# Altium footprint library 2020-07-15_11-51-00.PcbLib: 3 footprints
Each footprint in its own frame and in the unit in brackets; x right, y up, seen from the top. Pads: shape width x height; smd on the part's side, far side on the other; paste and mask are expansions set on the pad; w line width, h text height; cw(c..) or ccw(c..) is an arc to the next point about the centre after c.
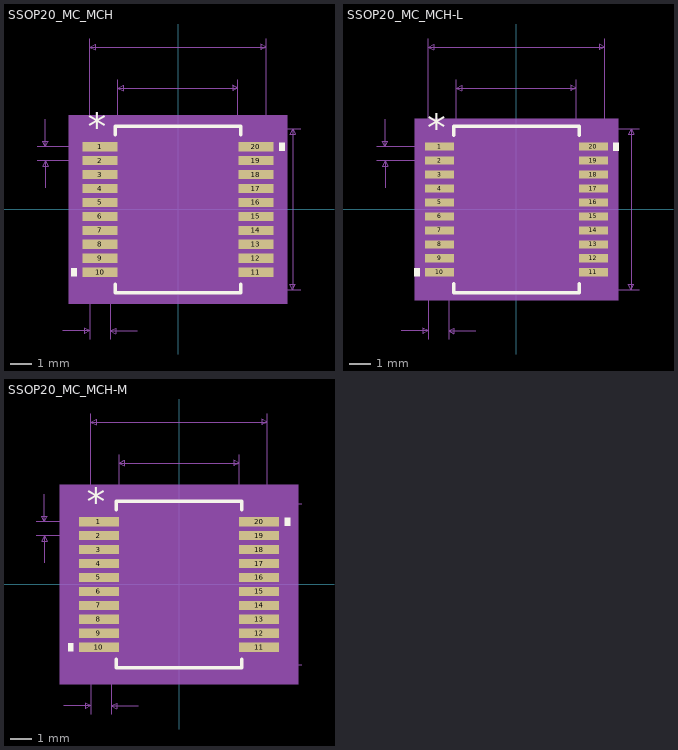
[diagram p0: the footprints below, top view; thin cyan lines are the x and y axes]

## SSOP20_MC_MCH [mil]
pads (20):
  rect 65x17 smd paste+0 mask+0: 1(-143,115.16) 2(-143,89.57) 3(-143,63.98) 4(-143,38.39) 5(-143,12.8) 6(-143,-12.8) 7(-143,-38.39) 8(-143,-63.98) 9(-143,-89.57) 10(-143,-115.16) 11(143,-115.16) 12(143,-89.57) 13(143,-63.98) 14(143,-38.39) 15(143,-12.8) 16(143,12.8) 17(143,38.39) 18(143,63.98) 19(143,89.57) 20(143,115.16)
Top Overlay:
  region: -185.5,-107.66 -195.5,-107.66 -195.5,-122.66 -185.5,-122.66
  region: 185.5,122.66 195.5,122.66 195.5,107.66 185.5,107.66
  lines w6: -115,-136.76 -115,-152.5 115,-152.5 115,-136.76 ; -115,136.76 -115,152.5 115,152.5 115,136.76
  text "*" at -165.5,127.16 h50
Mechanical 5:
  region: 200.5,-172.5 -200.5,-172.5 -200.5,172.5 200.5,172.5
Mechanical 7:
  lines w1: -258,89.57 -143,89.57 ; -258,115.16 -143,115.16 ; -243,39.57 -243,89.57 ; -243,165.16 -243,115.16 ; -211.5,-222.5 -161.5,-222.5 ; -161.5,-237.5 -161.5,0 -161.5,312.5 ; -124.5,-237.5 -124.5,0 ; -110,0 -110,237.5 ; -74.5,-222.5 -124.5,-222.5 ; 0,-147.5 225,-147.5 ; 0,147.5 225,147.5 ; 110,0 110,237.5 ; 161.5,0 161.5,312.5 ; -243,89.57 -248,79.57 -238,79.57 -243,89.57 ; -243,115.16 -248,125.16 -238,125.16 -243,115.16 ; -161.5,-222.5 -171.5,-217.5 -171.5,-227.5 -161.5,-222.5 ; -161.5,297.5 161.5,297.5 ; -161.5,297.5 -151.5,302.5 -151.5,292.5 -161.5,297.5 ; -124.5,-222.5 -114.5,-217.5 -114.5,-227.5 -124.5,-222.5 ; -110,222.5 110,222.5 ; -110,222.5 -100,227.5 -100,217.5 -110,222.5 ; 110,222.5 100,227.5 100,217.5 110,222.5 ; 161.5,297.5 151.5,302.5 151.5,292.5 161.5,297.5 ; 210,-147.5 210,147.5 ; 210,-147.5 205,-137.5 215,-137.5 210,-147.5 ; 210,147.5 205,137.5 215,137.5 210,147.5
  text "Default Padstyle: RX65Y17D0T" at -350,-347.5 h50
  text "Pin One Padstyle: RX65Y17D0T" at -350,-407.5 h50
  text "Alt 1 Padstyle: OX60Y90D30P" at -337.5,-587.5 h50
  text "Alt 2 Padstyle: OX90Y60D30P" at -337.5,-647.5 h50
  text "0.22in/5.588mm" at -87.5,242.5 h25
  text "0.323in/8.204mm" at -93.75,317.5 h25
  text "0.295in/7.493mm" at 230,-12.5 h25
  text "0.026in/0.65mm" at -438,89.86 h25
  text "0.037in/0.94mm" at -230.5,-267.5 h25
Mechanical 13:
  lines w0: -12,147.5 ccw(c0,147.5) 12,147.5
  lines w1: -161.5,-122.66 -161.5,-107.66 -110,-107.66 -110,-122.66 -161.5,-122.66 ; -161.5,-97.07 -161.5,-82.07 -110,-82.07 -110,-97.07 -161.5,-97.07 ; -161.5,-71.48 -161.5,-56.48 -110,-56.48 -110,-71.48 -161.5,-71.48 ; -161.5,-45.89 -161.5,-30.89 -110,-30.89 -110,-45.89 -161.5,-45.89 ; -161.5,-20.3 -161.5,-5.3 -110,-5.3 -110,-20.3 -161.5,-20.3 ; -161.5,5.3 -161.5,20.3 -110,20.3 -110,5.3 -161.5,5.3 ; -161.5,30.89 -161.5,45.89 -110,45.89 -110,30.89 -161.5,30.89 ; -161.5,56.48 -161.5,71.48 -110,71.48 -110,56.48 -161.5,56.48 ; -161.5,82.07 -161.5,97.07 -110,97.07 -110,82.07 -161.5,82.07 ; -161.5,107.66 -161.5,122.66 -110,122.66 -110,107.66 -161.5,107.66 ; -110,-147.5 110,-147.5 110,147.5 -110,147.5 -110,-147.5 ; 110,-122.66 110,-107.66 161.5,-107.66 161.5,-122.66 110,-122.66 ; 110,-97.07 110,-82.07 161.5,-82.07 161.5,-97.07 110,-97.07 ; 110,-71.48 110,-56.48 161.5,-56.48 161.5,-71.48 110,-71.48 ; 110,-45.89 110,-30.89 161.5,-30.89 161.5,-45.89 110,-45.89 ; 110,-20.3 110,-5.3 161.5,-5.3 161.5,-20.3 110,-20.3 ; 110,5.3 110,20.3 161.5,20.3 161.5,5.3 110,5.3 ; 110,30.89 110,45.89 161.5,45.89 161.5,30.89 110,30.89 ; 110,56.48 110,71.48 161.5,71.48 161.5,56.48 110,56.48 ; 110,82.07 110,97.07 161.5,97.07 161.5,82.07 110,82.07 ; 110,107.66 110,122.66 161.5,122.66 161.5,107.66 110,107.66
  text "*" at -107.5,94.5 h50
Mechanical 15:
  region: -120,-133.66 -185.5,-133.66 -185.5,133.66 -120,133.66 -120,157.5 120,157.5 120,133.66 185.5,133.66 185.5,-133.66 120,-133.66 120,-157.5 -120,-157.5
  lines w6: -185.5,-133.66 -185.5,133.66 -120,133.66 -120,157.5 120,157.5 120,133.66 185.5,133.66 185.5,-133.66 120,-133.66 120,-157.5 -120,-157.5 -120,-133.66 -185.5,-133.66
3D body: height 10, standoff 0, extent 0,0 10,10

## SSOP20_MC_MCH-L [mil]
pads (20):
  rect 53x15 smd paste+0 mask+0: 1(-141,115.16) 2(-141,89.57) 3(-141,63.98) 4(-141,38.39) 5(-141,12.8) 6(-141,-12.8) 7(-141,-38.39) 8(-141,-63.98) 9(-141,-89.57) 10(-141,-115.16) 11(141,-115.16) 12(141,-89.57) 13(141,-63.98) 14(141,-38.39) 15(141,-12.8) 16(141,12.8) 17(141,38.39) 18(141,63.98) 19(141,89.57) 20(141,115.16)
Top Overlay:
  region: -177.5,-107.66 -187.5,-107.66 -187.5,-122.66 -177.5,-122.66
  region: 177.5,122.66 187.5,122.66 187.5,107.66 177.5,107.66
  lines w6: -115,-135.76 -115,-152.5 115,-152.5 115,-135.76 ; -115,135.76 -115,152.5 115,152.5 115,135.76
  text "*" at -163.5,125.16 h50
Mechanical 5:
  region: 186.5,-166.5 -186.5,-166.5 -186.5,166.5 186.5,166.5
Mechanical 7:
  lines w1: -256,89.57 -141,89.57 ; -256,115.16 -141,115.16 ; -241,39.57 -241,89.57 ; -241,165.16 -241,115.16 ; -211.5,-222.5 -161.5,-222.5 ; -161.5,-237.5 -161.5,0 -161.5,312.5 ; -124.5,-237.5 -124.5,0 ; -110,0 -110,237.5 ; -74.5,-222.5 -124.5,-222.5 ; 0,-147.5 225,-147.5 ; 0,147.5 225,147.5 ; 110,0 110,237.5 ; 161.5,0 161.5,312.5 ; -241,89.57 -246,79.57 -236,79.57 -241,89.57 ; -241,115.16 -246,125.16 -236,125.16 -241,115.16 ; -161.5,-222.5 -171.5,-217.5 -171.5,-227.5 -161.5,-222.5 ; -161.5,297.5 161.5,297.5 ; -161.5,297.5 -151.5,302.5 -151.5,292.5 -161.5,297.5 ; -124.5,-222.5 -114.5,-217.5 -114.5,-227.5 -124.5,-222.5 ; -110,222.5 110,222.5 ; -110,222.5 -100,227.5 -100,217.5 -110,222.5 ; 110,222.5 100,227.5 100,217.5 110,222.5 ; 161.5,297.5 151.5,302.5 151.5,292.5 161.5,297.5 ; 210,-147.5 210,147.5 ; 210,-147.5 205,-137.5 215,-137.5 210,-147.5 ; 210,147.5 205,137.5 215,137.5 210,147.5
  text "Default Padstyle: RX53Y15D0T" at -350,-347.5 h50
  text "Pin One Padstyle: RX53Y15D0T" at -350,-407.5 h50
  text "Alt 1 Padstyle: OX60Y90D30P" at -337.5,-587.5 h50
  text "Alt 2 Padstyle: OX90Y60D30P" at -337.5,-647.5 h50
  text "0.22in/5.588mm" at -87.5,242.5 h25
  text "0.323in/8.204mm" at -93.75,317.5 h25
  text "0.295in/7.493mm" at 230,-12.5 h25
  text "0.026in/0.65mm" at -436,89.86 h25
  text "0.037in/0.94mm" at -230.5,-267.5 h25
Mechanical 13:
  lines w0: -12,147.5 ccw(c0,147.5) 12,147.5
  lines w1: -161.5,-122.66 -161.5,-107.66 -110,-107.66 -110,-122.66 -161.5,-122.66 ; -161.5,-97.07 -161.5,-82.07 -110,-82.07 -110,-97.07 -161.5,-97.07 ; -161.5,-71.48 -161.5,-56.48 -110,-56.48 -110,-71.48 -161.5,-71.48 ; -161.5,-45.89 -161.5,-30.89 -110,-30.89 -110,-45.89 -161.5,-45.89 ; -161.5,-20.3 -161.5,-5.3 -110,-5.3 -110,-20.3 -161.5,-20.3 ; -161.5,5.3 -161.5,20.3 -110,20.3 -110,5.3 -161.5,5.3 ; -161.5,30.89 -161.5,45.89 -110,45.89 -110,30.89 -161.5,30.89 ; -161.5,56.48 -161.5,71.48 -110,71.48 -110,56.48 -161.5,56.48 ; -161.5,82.07 -161.5,97.07 -110,97.07 -110,82.07 -161.5,82.07 ; -161.5,107.66 -161.5,122.66 -110,122.66 -110,107.66 -161.5,107.66 ; -110,-147.5 110,-147.5 110,147.5 -110,147.5 -110,-147.5 ; 110,-122.66 110,-107.66 161.5,-107.66 161.5,-122.66 110,-122.66 ; 110,-97.07 110,-82.07 161.5,-82.07 161.5,-97.07 110,-97.07 ; 110,-71.48 110,-56.48 161.5,-56.48 161.5,-71.48 110,-71.48 ; 110,-45.89 110,-30.89 161.5,-30.89 161.5,-45.89 110,-45.89 ; 110,-20.3 110,-5.3 161.5,-5.3 161.5,-20.3 110,-20.3 ; 110,5.3 110,20.3 161.5,20.3 161.5,5.3 110,5.3 ; 110,30.89 110,45.89 161.5,45.89 161.5,30.89 110,30.89 ; 110,56.48 110,71.48 161.5,71.48 161.5,56.48 110,56.48 ; 110,82.07 110,97.07 161.5,97.07 161.5,82.07 110,82.07 ; 110,107.66 110,122.66 161.5,122.66 161.5,107.66 110,107.66
  text "*" at -107.5,94.5 h50
Mechanical 15:
  region: -114,-126.66 -171.5,-126.66 -171.5,126.66 -114,126.66 -114,151.5 114,151.5 114,126.66 171.5,126.66 171.5,-126.66 114,-126.66 114,-151.5 -114,-151.5
  lines w6: -171.5,-126.66 -171.5,126.66 -114,126.66 -114,151.5 114,151.5 114,126.66 171.5,126.66 171.5,-126.66 114,-126.66 114,-151.5 -114,-151.5 -114,-126.66 -171.5,-126.66
3D body: height 10, standoff 0, extent 0,0 10,10

## SSOP20_MC_MCH-M [mil]
pads (20):
  rect 73.5x17 smd paste+0 mask+0: 1(-146.75,115.16) 2(-146.75,89.57) 3(-146.75,63.98) 4(-146.75,38.39) 5(-146.75,12.8) 6(-146.75,-12.8) 7(-146.75,-38.39) 8(-146.75,-63.98) 9(-146.75,-89.57) 10(-146.75,-115.16) 11(146.75,-115.16) 12(146.75,-89.57) 13(146.75,-63.98) 14(146.75,-38.39) 15(146.75,-12.8) 16(146.75,12.8) 17(146.75,38.39) 18(146.75,63.98) 19(146.75,89.57) 20(146.75,115.16)
Top Overlay:
  region: -193.5,-107.66 -203.5,-107.66 -203.5,-122.66 -193.5,-122.66
  region: 193.5,122.66 203.5,122.66 203.5,107.66 193.5,107.66
  lines w6: -115,-136.76 -115,-152.5 115,-152.5 115,-136.76 ; -115,136.76 -115,152.5 115,152.5 115,136.76
  text "*" at -169.25,127.16 h50
Mechanical 5:
  region: 218.5,-182.5 -218.5,-182.5 -218.5,182.5 218.5,182.5
Mechanical 7:
  lines w1: -261.75,89.57 -146.75,89.57 ; -261.75,115.16 -146.75,115.16 ; -246.75,39.57 -246.75,89.57 ; -246.75,165.16 -246.75,115.16 ; -211.5,-222.5 -161.5,-222.5 ; -161.5,-237.5 -161.5,0 -161.5,312.5 ; -124.5,-237.5 -124.5,0 ; -110,0 -110,237.5 ; -74.5,-222.5 -124.5,-222.5 ; 0,-147.5 225,-147.5 ; 0,147.5 225,147.5 ; 110,0 110,237.5 ; 161.5,0 161.5,312.5 ; -246.75,89.57 -251.75,79.57 -241.75,79.57 -246.75,89.57 ; -246.75,115.16 -251.75,125.16 -241.75,125.16 -246.75,115.16 ; -161.5,-222.5 -171.5,-217.5 -171.5,-227.5 -161.5,-222.5 ; -161.5,297.5 161.5,297.5 ; -161.5,297.5 -151.5,302.5 -151.5,292.5 -161.5,297.5 ; -124.5,-222.5 -114.5,-217.5 -114.5,-227.5 -124.5,-222.5 ; -110,222.5 110,222.5 ; -110,222.5 -100,227.5 -100,217.5 -110,222.5 ; 110,222.5 100,227.5 100,217.5 110,222.5 ; 161.5,297.5 151.5,302.5 151.5,292.5 161.5,297.5 ; 210,-147.5 210,147.5 ; 210,-147.5 205,-137.5 215,-137.5 210,-147.5 ; 210,147.5 205,137.5 215,137.5 210,147.5
  text "Default Padstyle: RX73p5Y17D0T" at -375,-347.5 h50
  text "Pin One Padstyle: RX73p5Y17D0T" at -375,-407.5 h50
  text "Alt 1 Padstyle: OX60Y90D30P" at -337.5,-587.5 h50
  text "Alt 2 Padstyle: OX90Y60D30P" at -337.5,-647.5 h50
  text "0.22in/5.588mm" at -87.5,242.5 h25
  text "0.323in/8.204mm" at -93.75,317.5 h25
  text "0.295in/7.493mm" at 230,-12.5 h25
  text "0.026in/0.65mm" at -441.75,89.86 h25
  text "0.037in/0.94mm" at -230.5,-267.5 h25
Mechanical 13:
  lines w0: -12,147.5 ccw(c0,147.5) 12,147.5
  lines w1: -161.5,-122.66 -161.5,-107.66 -110,-107.66 -110,-122.66 -161.5,-122.66 ; -161.5,-97.07 -161.5,-82.07 -110,-82.07 -110,-97.07 -161.5,-97.07 ; -161.5,-71.48 -161.5,-56.48 -110,-56.48 -110,-71.48 -161.5,-71.48 ; -161.5,-45.89 -161.5,-30.89 -110,-30.89 -110,-45.89 -161.5,-45.89 ; -161.5,-20.3 -161.5,-5.3 -110,-5.3 -110,-20.3 -161.5,-20.3 ; -161.5,5.3 -161.5,20.3 -110,20.3 -110,5.3 -161.5,5.3 ; -161.5,30.89 -161.5,45.89 -110,45.89 -110,30.89 -161.5,30.89 ; -161.5,56.48 -161.5,71.48 -110,71.48 -110,56.48 -161.5,56.48 ; -161.5,82.07 -161.5,97.07 -110,97.07 -110,82.07 -161.5,82.07 ; -161.5,107.66 -161.5,122.66 -110,122.66 -110,107.66 -161.5,107.66 ; -110,-147.5 110,-147.5 110,147.5 -110,147.5 -110,-147.5 ; 110,-122.66 110,-107.66 161.5,-107.66 161.5,-122.66 110,-122.66 ; 110,-97.07 110,-82.07 161.5,-82.07 161.5,-97.07 110,-97.07 ; 110,-71.48 110,-56.48 161.5,-56.48 161.5,-71.48 110,-71.48 ; 110,-45.89 110,-30.89 161.5,-30.89 161.5,-45.89 110,-45.89 ; 110,-20.3 110,-5.3 161.5,-5.3 161.5,-20.3 110,-20.3 ; 110,5.3 110,20.3 161.5,20.3 161.5,5.3 110,5.3 ; 110,30.89 110,45.89 161.5,45.89 161.5,30.89 110,30.89 ; 110,56.48 110,71.48 161.5,71.48 161.5,56.48 110,56.48 ; 110,82.07 110,97.07 161.5,97.07 161.5,82.07 110,82.07 ; 110,107.66 110,122.66 161.5,122.66 161.5,107.66 110,107.66
  text "*" at -107.5,94.5 h50
Mechanical 15:
  region: -130,-143.66 -203.5,-143.66 -203.5,143.66 -130,143.66 -130,167.5 130,167.5 130,143.66 203.5,143.66 203.5,-143.66 130,-143.66 130,-167.5 -130,-167.5
  lines w6: -203.5,-143.66 -203.5,143.66 -130,143.66 -130,167.5 130,167.5 130,143.66 203.5,143.66 203.5,-143.66 130,-143.66 130,-167.5 -130,-167.5 -130,-143.66 -203.5,-143.66
3D body: height 10, standoff 0, extent 0,0 10,10